# Altium integrated library SM04B-GHS-TB_LF__SN_-.IntLib: 1 symbol
Pins are listed as number, name and electrical type; pins without a type are passive.

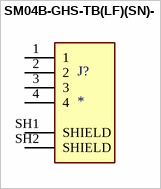
[diagram p0: symbol SM04B-GHS-TB(LF)(SN)-]

## SM04B-GHS-TB(LF)(SN)-
designator J?
Connector Header Surface Mount, Right Angle 4 position 0.049 (1.25mm); MF: JST Sales America Inc.; MP: SM04B-GHS-TB(LF)(SN); SnapEDA_Link: https://www.snapeda.com/parts/SM04B-GHS-TB(LF)(SN)/JST/view-part/?ref=snap; Package: None; Value: *; Check_prices: https://www.snapeda.com/parts/SM04B-GHS-TB(LF)(SN)/JST/view-part/?ref=eda
footprint JST_SM04B-GHS-TB(LF)(SN)-
pins: 1, 2, 3, 4, SH1 SHIELD (power), SH2 SHIELD (power)